# EAGLE library part 6PIN (library FH105)
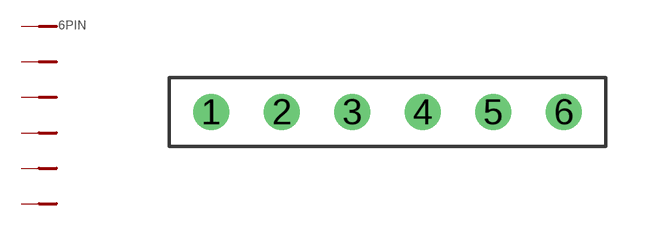
[diagram p1: symbol with the pads of FH105-1X6SG; footprint FH105-1X6SG]

Designator prefix -; gates -3=M-1 -4=M-1 -2=M-1 -5=M-1 -6=M-1 -1=MV-1

## 6PIN  [FH105-1X6SG]
1  -1:P$1
2  -2:P$1
3  -3:P$1
4  -4:P$1
5  -5:P$1
6  -6:P$1

## Footprint FH105-1X6SG (pad centres in mm)
drill 0.8: 1 -6.35,0; 2 -3.81,0; 3 -1.27,0; 4 1.27,0; 5 3.81,0; 6 6.35,0